# Altium footprint library 282836-4.PcbLib: 2 footprints
Each footprint in its own frame and in the unit in brackets; x right, y up, seen from the top. Pads: shape width x height; smd on the part's side, far side on the other; paste and mask are expansions set on the pad; w line width, h text height; cw(c..) or ccw(c..) is an arc to the next point about the centre after c.
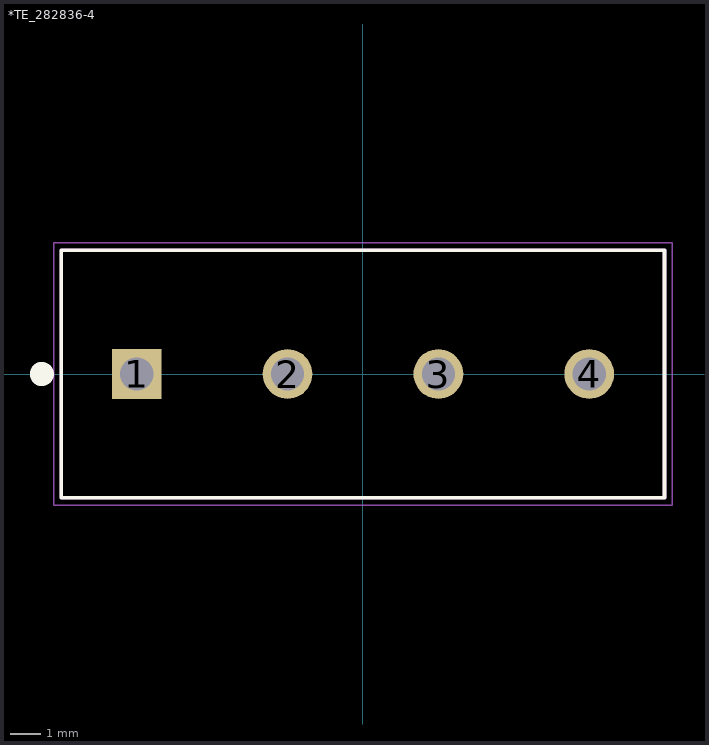
[diagram p0: the footprints below, top view; thin cyan lines are the x and y axes]

## *TE_282836-4 [mm]
pads (4):
  rect 1.65x1.65 hole 1.1: 1(-7.5,0)
  round 1.65 hole 1.1: 2(-2.5,0) 3(2.5,0) 4(7.5,0)
Top Overlay:
  circle w0.4: c-10.645,0 r0.2
  lines w0.127: -10,-4.1 10,-4.1 10,4.1 -10,4.1 -10,-4.1
Mechanical 13:
  lines w0.127: -10,-4.1 10,-4.1 ; -10,-4.1 -10,4.1 ; -10,-4.1 10,-4.1 ; -10,-4.1 -10,4.1 ; -10,4.1 10,4.1 ; -10,4.1 10,4.1 ; 10,-4.1 10,4.1 ; 10,-4.1 10,4.1
Mechanical 15:
  lines w0.05: -10.25,-4.35 -10.25,4.35 10.25,4.35 10.25,-4.35 -10.25,-4.35

## PCBComponent_1 [mm]